# EAGLE library part IC_MAX14500 (library dp_devices)
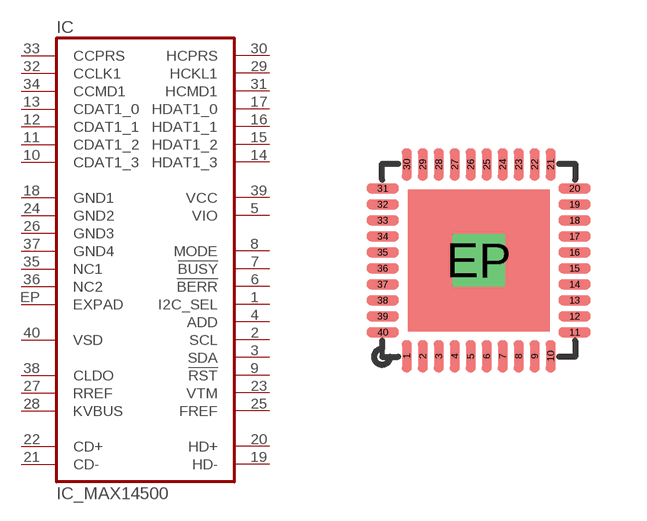
[diagram p46: symbol with the pads of TQFN-40-5X5; footprint TQFN-40-5X5]

Designator prefix IC

## IC_MAX14500-TQFN40-5X5  [TQFN-40-5X5]
1  I2C_SEL
2  SCL
3  SDA
4  ADD
5  VIO
6  !BERR
7  !BUSY
8  MODE
9  !RST
10  CDAT1_3
11  CDAT1_2
12  CDAT1_1
13  CDAT1_0
14  HDAT1_3
15  HDAT1_2
16  HDAT1_1
17  HDAT1_0
18  GND1
19  HD-
20  HD+
21  CD-
22  CD+
23  VTM
24  GND2
25  FREF
26  GND3
27  RREF
28  KVBUS
29  HCKL1
30  HCPRS
31  HCMD1
32  CCLK1
33  CCPRS
34  CCMD1
35  NC1
36  NC2
37  GND4
38  CLDO
39  VCC
40  VSD
EP  EXPAD

## Footprint TQFN-40-5X5 (pad centres in mm)
smd 0.25 x 0.8: 1 -1.8,-2.4; 2 -1.4,-2.4; 3 -1,-2.4; 4 -0.6,-2.4; 5 -0.2,-2.4; 6 0.2,-2.4; 7 0.6,-2.4; 8 1,-2.4; 9 1.4,-2.4; 10 1.8,-2.4; 21 1.8,2.4; 22 1.4,2.4; 23 1,2.4; 24 0.6,2.4; 25 0.2,2.4; 26 -0.2,2.4; 27 -0.6,2.4; 28 -1,2.4; 29 -1.4,2.4; 30 -1.8,2.4
smd 0.8 x 0.25: 11 2.4,-1.8; 12 2.4,-1.4; 13 2.4,-1; 14 2.4,-0.6; 15 2.4,-0.2; 16 2.4,0.2; 17 2.4,0.6; 18 2.4,1; 19 2.4,1.4; 20 2.4,1.8; 31 -2.4,1.8; 32 -2.4,1.4; 33 -2.4,1; 34 -2.4,0.6; 35 -2.4,0.2; 36 -2.4,-0.2; 37 -2.4,-0.6; 38 -2.4,-1; 39 -2.4,-1.4; 40 -2.4,-1.8
drill 0.8 square: EP 0,0